# Altium footprint library TO_Test.PcbLib: 9 footprints
Each footprint in its own frame and in the unit in brackets; x right, y up, seen from the top. Pads: shape width x height; smd on the part's side, far side on the other; paste and mask are expansions set on the pad; w line width, h text height; cw(c..) or ccw(c..) is an arc to the next point about the centre after c.
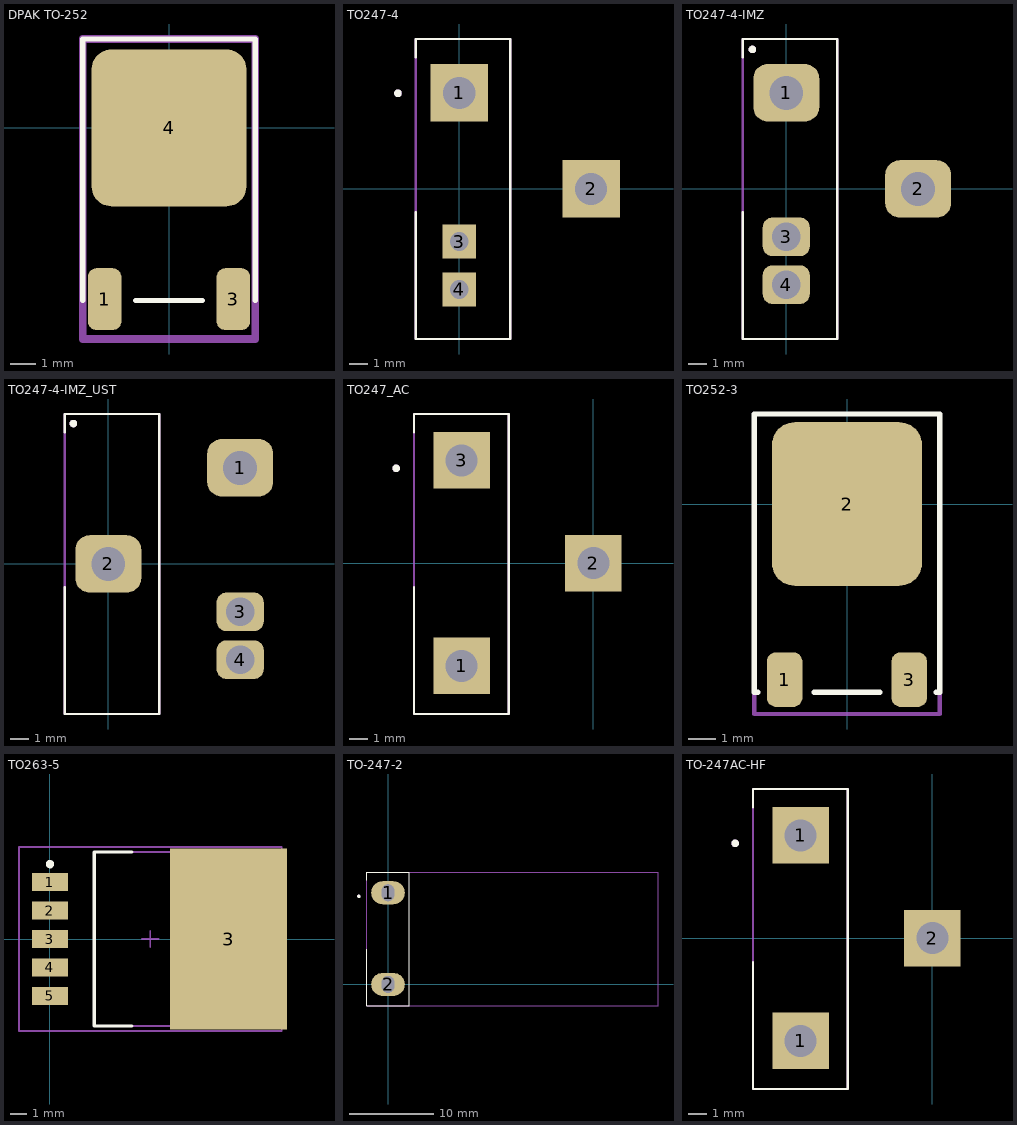
[diagram p0: the footprints below, top view; thin cyan lines are the x and y axes]

## DPAK TO-252 [mm]
pads (3):
  rrect50% 1.3x2.4 smd: 1(-2.5,-6.65) 3(2.5,-6.65)
  rrect25% 6x6.1 smd: 4(0,0)
Top Overlay:
  lines w0.2: -3.35,-6.7 -3.35,3.45 3.35,3.45 3.35,-6.7 ; -1.3,-6.7 1.3,-6.7
Top Assembly:
  lines w0.3: -3.35,-8.2 -3.35,3.45 3.35,3.45 3.35,-8.2 -3.35,-8.2
  text "'.Designator'" at -2.417,-1.326 h1
3D body "User Library-DPAK_TO-252AA.STEP": height 2.37, standoff -0.03, extent -3.417,-7.098 3.317,3.002

## TO247-4 [mm]
pads (4):
  rect 3.05x3.05 hole 1.7 square: 1(0,5.1) 2(7,0)
  rect 1.8x1.8 hole 1 square: 3(0,-2.79) 4(0,-5.33)
Top Overlay:
  circle w0.2: c-3.252,5.075 r0.1
  lines w0.127: -2.305,-1.223 -2.305,-7.96 2.715,-7.96 2.715,7.955 -2.305,7.955 -2.305,6.997
Top Assembly:
  circle w0.2: c-3.25,5.075 r0.1
  lines w0.127: -2.305,-7.962 -2.305,7.953 ; -2.305,-7.96 2.715,-7.96 ; -2.305,7.955 2.715,7.955 ; 2.715,-7.962 2.715,7.953
  text "'.Designator'" at -0.185,5.25 h2
3D body "PG-TO247-4-2.STEP": height 7.47, standoff -5.1, extent -0.3,-8 32.359,7.9

## TO247-4-IMZ [mm]
pads (4):
  rrect50% 3.5x3.05 hole 1.8: 1(0,5.1) 2(7,0)
  rrect50% 2.5x2.05 hole 1.5: 3(0,-2.54) 4(0,-5.08)
Top Overlay:
  circle w0.2: c-1.8,7.4 r0.1
  lines w0.127: -2.305,-1.223 -2.305,-7.96 2.715,-7.96 2.715,7.955 -2.305,7.955 -2.305,6.997
Top Assembly:
  circle w0.2: c-1.798,7.4 r0.1
  lines w0.127: -2.305,-7.962 -2.305,7.953 ; -2.305,-7.96 2.715,-7.96 ; -2.305,7.955 2.715,7.955 ; 2.715,-7.962 2.715,7.953
  text "'.Designator'" at -0.185,5.25 h2
3D body "PG-TO247-4-2.STEP": height 6.47, standoff -6.1, extent -0.38,-7.95 32.28,7.95

## TO247-4-IMZ_UST [mm]
pads (4):
  rrect50% 3.5x3.05 hole 1.8: 1(7,5.1) 2(0,0)
  rrect50% 2.5x2.05 hole 1.5: 3(7,-2.54) 4(7,-5.08)
Top Overlay:
  circle w0.2: c-1.85,7.45 r0.1
  lines w0.127: -2.305,-1.223 -2.305,-7.96 2.715,-7.96 2.715,7.955 -2.305,7.955 -2.305,6.997
Top Assembly:
  circle w0.2: c-1.848,7.45 r0.1
  lines w0.127: -2.305,-7.962 -2.305,7.953 ; -2.305,-7.96 2.715,-7.96 ; -2.305,7.955 2.715,7.955 ; 2.715,-7.962 2.715,7.953
  text "'.Designator'" at -0.185,5.25 h2
3D body "PG-TO247-4-2.STEP": height 6.47, standoff -6.1, extent -0.509,-7.95 32.15,7.95

## TO247_AC [mm]
pads (3):
  rect 3x3 hole 1.7 square: 1(-6.984,-5.45) 2(0.016,0) 3(-6.984,5.45)
Top Overlay:
  circle w0.2: c-10.452,5.029 r0.1
  lines w0.127: -9.505,-1.269 -9.505,-8.007 -4.485,-8.007 -4.485,7.908 -9.505,7.908 -9.505,6.951
Top Assembly:
  circle w0.2: c-10.452,5.029 r0.1
  lines w0.127: -9.507,-8.007 -9.507,7.908 ; -9.507,-8.005 -4.487,-8.005 ; -9.507,7.91 -4.487,7.91 ; -4.487,-8.007 -4.487,7.908
  text "'.Designator'" at -7.494,5.194 h2
3D body "TO_247AC.STEP": height 0.35, standoff -6, extent -7.37,-7.95 25.07,7.85

## TO252-3 [mm]
pads (3):
  rrect50% 1.3x2 smd: 1(-2.286,-6.44) 3(2.283,-6.44)
  rrect30% 5.5x6 smd: 2(0,0)
Top Overlay:
  lines w0.2: -3.275,-6.9 -3.4,-6.9 -3.4,3.3 3.4,3.3 3.4,-6.9 3.275,-6.9 ; -1.2,-6.9 1.2,-6.9
Top Assembly:
  lines w0.152: -3.4,-7.7 3.4,-7.7 3.4,3.3 -3.4,3.3 -3.4,-7.7
  text "'.Designator'" at 0.8,-7.3 h2
3D body "User Library-DPAK_TO-252AA.STEP": height 3.37, standoff 0.97, extent -3.367,-6.95 3.367,3.15

## TO263-5 [mm] "D2-PAK, 6-Leads, Body 8.6x10.2mm, Pitch 1.7mm, Lead Span 14.1mm, IPC Medium Density"
height 4.65
pads (6):
  rect 2.16x1.07 smd: 1(0,3.4) 2(0,1.7) 3(0,0) 4(0,-1.7) 5(0,-3.4)
  rect 7x10.8 smd: 3(10.68,0)
Top Overlay:
  circle w0.25: c0,4.475 r0.125
  lines w0.2: 4.9,-5.2 2.65,-5.2 2.65,5.2 4.9,5.2
Mechanical 15:
  lines w0.1: 5.5,0 6.5,0 ; 6,-0.5 6,0.5 ; -1.85,-5.5 -1.85,5.5 13.85,5.5 13.85,-5.5 -1.85,-5.5
Top Assembly:
  lines w0.1: 2.65,-5.2 2.65,5.2 12.05,5.2 12.05,-5.2 2.65,-5.2
  text "'.Designator'" at 3.333,-0.412 h2
3D body "KTT0005B.stp": height 4.64, standoff -0.09, extent -0.875,-5.1 13.425,5.06

## TO-247-2 [mm]
pads (2):
  oval 4x2.75 hole 2 slot 1.5 at 0 deg: 1(0,10.9) 2(0,0)
Top Overlay:
  circle w0.2: c-3.468,10.479 r0.1
  lines w0.127: -2.522,4.18 -2.522,-2.557 2.498,-2.557 2.498,13.358 -2.522,13.358 -2.522,12.401
Top Assembly:
  circle w0.2: c-3.468,10.479 r0.1
  lines w0.127: -2.523,-2.557 -2.523,13.358 ; -2.523,-2.555 32.1,-2.555 32.1,13.36 -2.523,13.36
  text "'.Designator'" at -0.511,10.643 h2
3D body "TO_247AC.STEP": height 0.35, standoff -6, extent -0.386,-2.5 32.054,13.3

## TO-247AC-HF [mm]
pads (3):
  rect 3x3 hole 1.7 square: 1(-7,-5.45) 1(-7,5.45) 2(0,0)
Top Overlay:
  circle w0.2: c-10.469,5.029 r0.1
  lines w0.127: -9.522,-1.269 -9.522,-8.007 -4.502,-8.007 -4.502,7.908 -9.522,7.908 -9.522,6.951
Top Assembly:
  circle w0.2: c-10.468,5.029 r0.1
  lines w0.127: -9.523,-8.007 -9.523,7.908 ; -9.523,-8.005 -4.503,-8.005 ; -9.523,7.91 -4.503,7.91 ; -4.503,-8.007 -4.503,7.908
  text "'.Designator'" at -7.511,5.193 h2
3D body "TO-247AC-HF.STEP": height 3.85, standoff -6.3, extent -7.142,-8.025 25.642,7.825